# Altium schematic symbol library 87832-1420.SchLib: 1 symbol
Pins are listed as number, name and electrical type; pins without a type are passive.

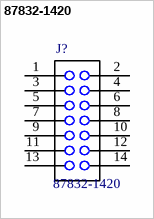
[diagram p0: symbol 87832-1420]

## 87832-1420
designator J?
HEADER, 14WAY; Connector Type: Wire to Board; Series: 87832; Contact Material: Phosphor Bronze; MF: Molex; Package: None; Price: None; SnapEDA_Link: https://www.snapeda.com/parts/87832-1420/Molex/view-part/?ref=snap; Availability: Unavailable; MP: 87832-1420; Value: *
footprint *MOLEX_87832-1420
pins: 1, 2, 3, 4, 5, 6, 7, 8, 9, 10, 11, 12, 13, 14